# Altium schematic symbol library EA3036CQBR.SchLib: 1 symbol
Pins are listed as number, name and electrical type; pins without a type are passive.

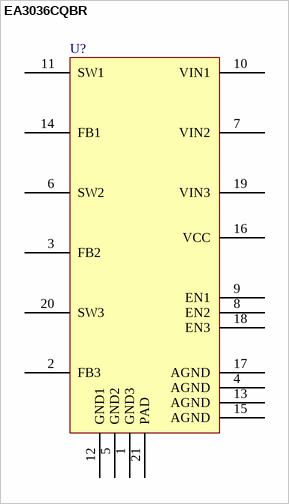
[diagram p0: symbol EA3036CQBR]

## EA3036CQBR
designator U?
pins: 1 GND3, 2 FB3, 3 FB2, 4 AGND, 5 GND2, 6 SW2, 7 VIN2, 8 EN2, 9 EN1, 10 VIN1, 11 SW1, 12 GND1, 13 AGND, 14 FB1, 15 AGND, 16 VCC, 17 AGND, 18 EN3, 19 VIN3, 20 SW3, 21 PAD